# Altium footprint library DM27.PcbLib: 1 footprints
Each footprint in its own frame and in the unit in brackets; x right, y up, seen from the top. Pads: shape width x height; smd on the part's side, far side on the other; paste and mask are expansions set on the pad; w line width, h text height; cw(c..) or ccw(c..) is an arc to the next point about the centre after c.
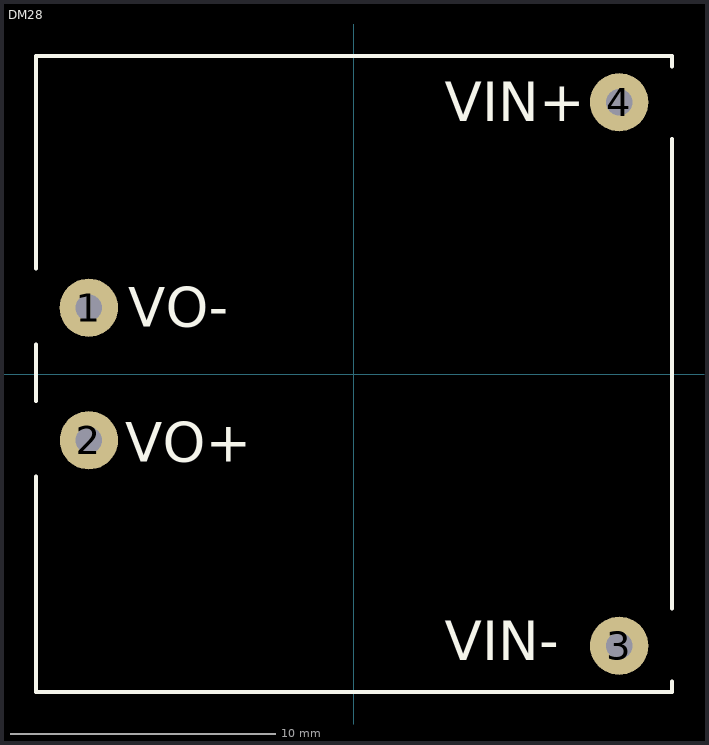
[diagram p0: the footprint, top view; thin cyan lines are the x and y axes]

## DM28 [mm]
pads (4):
  round 2.2 hole 1: 1(-10,2.5) 2(-9.996,-2.5) 3(10,-10.25) 4(10,10.25)
Top Overlay:
  lines w0.15: -12,-3.861 -12,-12 12,-12 12,-11.594 ; -12,-1.016 -12,1.118 ; -12,3.988 -12,12 12,12 12,11.594 ; 12,-8.839 12,8.865
  text "VO-" at -8.509,1.778 h1.5
  text "VO+" at -8.636,-3.302 h1.5
  text "VIN-" at 3.429,-10.795 h1.5
  text "VIN+" at 3.429,9.525 h1.5